# EAGLE library part MFRC523-DIP32 (library Neel)
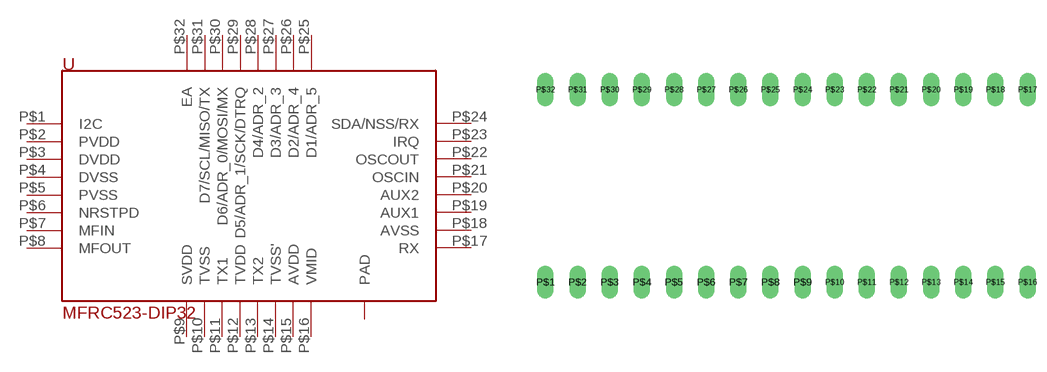
[diagram p14: symbol with the pads of DIP-32-0.6W; footprint DIP-32-0.6W]

Designator prefix -

## MFRC523-DIP32  [DIP-32-0.6W]
P$1  I2C
P$2  PVDD
P$3  DVDD
P$4  DVSS
P$5  PVSS
P$6  NRSTPD
P$7  MFIN
P$8  MFOUT
P$9  SVDD
P$10  TVSS
P$11  TX1
P$12  TVDD
P$13  TX2
P$14  TVSS'
P$15  AVDD
P$16  VMID
P$17  RX
P$18  AVSS
P$19  AUX1
P$20  AUX2
P$21  OSCIN
P$22  OSCOUT
P$23  IRQ
P$24  SDA/NSS/RX
P$25  D1/ADR_5
P$26  D2/ADR_4
P$27  D3/ADR_3
P$28  D4/ADR_2
P$29  D5/ADR_1/SCK/DTRQ
P$30  D6/ADR_0/MOSI/MX
P$31  D7/SCL/MISO/TX
P$32  EA

## Footprint DIP-32-0.6W (pad centres in mm)
drill 0.8 long: P$1 -19.05,-7.62; P$2 -16.51,-7.62; P$3 -13.97,-7.62; P$4 -11.43,-7.62; P$5 -8.89,-7.62; P$6 -6.35,-7.62; P$7 -3.81,-7.62; P$8 -1.27,-7.62; P$9 1.27,-7.62; P$10 3.81,-7.62; P$11 6.35,-7.62; P$12 8.89,-7.62; P$13 11.43,-7.62; P$14 13.97,-7.62; P$15 16.51,-7.62; P$16 19.05,-7.62; P$17 19.05,7.62; P$18 16.51,7.62; P$19 13.97,7.62; P$20 11.43,7.62; P$21 8.89,7.62; P$22 6.35,7.62; P$23 3.81,7.62; P$24 1.27,7.62; P$25 -1.27,7.62; P$26 -3.81,7.62; P$27 -6.35,7.62; P$28 -8.89,7.62; P$29 -11.43,7.62; P$30 -13.97,7.62; P$31 -16.51,7.62; P$32 -19.05,7.62